# Altium integrated library TPD4E1B06DRLR.IntLib: 1 symbol
Pins are listed as number, name and electrical type; pins without a type are passive.

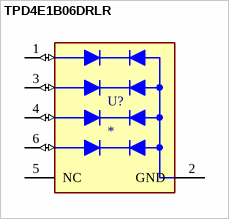
[diagram p0: symbol TPD4E1B06DRLR]

## TPD4E1B06DRLR
designator U?
Quad 0.7-pF, Â±5.5-V, Â±12-kV ESD protection diode with 0.5-nA max leakage in SOT & SC70 packages; MF: Texas Instruments; MP: TPD4E1B06DRLR; SnapEDA_Link: https://www.snapeda.com/parts/TPD4E1B06DRLR/Texas+Instruments/view-part/?ref=snap; Package: SOT-5X3-6 Texas Instruments; Value: *; Check_prices: https://www.snapeda.com/parts/TPD4E1B06DRLR/Texas+Instruments/view-part/?ref=eda
footprint SOT50P160X60-6N
pins: 1 IO1 (io), 2 GND (power), 3 IO2 (io), 4 IO3 (io), 5 NC, 6 IO4 (io)